# Altium schematic symbol library SCH - POWER - SWITCHMODE - TI TPS54116-Q1RTW.SchLib: 1 symbol
Pins are listed as number, name and electrical type; pins without a type are passive.

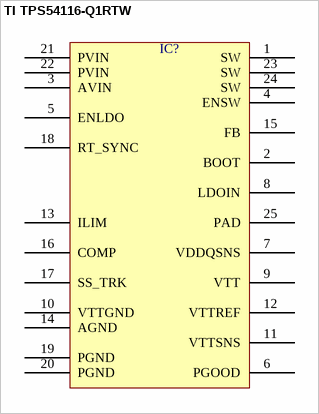
[diagram p0: symbol TI TPS54116-Q1RTW]

## TI TPS54116-Q1RTW
designator IC?  (value not drawn)
pins: 1 SW, 2 BOOT, 3 AVIN, 4 ENSW, 5 ENLDO, 6 PGOOD, 7 VDDQSNS, 8 LDOIN, 9 VTT, 10 VTTGND, 11 VTTSNS, 12 VTTREF, 13 ILIM, 14 AGND, 15 FB, 16 COMP, 17 SS_TRK, 18 RT_SYNC, 19 PGND, 20 PGND, 21 PVIN, 22 PVIN, 23 SW, 24 SW, 25 PAD